# EAGLE library part USB-CONNECTOR (library 00_ir)
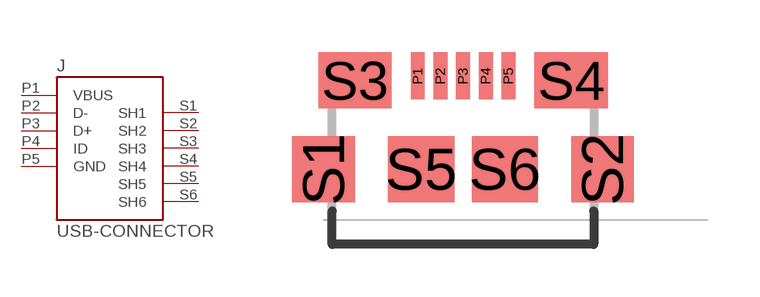
[diagram p5: symbol with the pads of USB-MICROB; footprint USB-MICROB]

Designator prefix J

## USB-CONNECTORMICROB  [USB-MICROB]
P1  VBUS  pwr
P2  D-
P3  D+
P4  ID
P5  GND  pas
S1  SH1  pas
S2  SH2  pas
S3  SH3  pas
S4  SH4  pas
S5  SH5  pas
S6  SH6  pas

## Footprint USB-MICROB (pad centres in mm)
ZX62-B-5PA(11) http://www.hirose.co.jp/catalogj_hp/j24200011.pdf
smd 0.4 x 1.35: P1 -1.3,2.675; P2 -0.65,2.675; P3 0,2.675; P4 0.65,2.675; P5 1.3,2.675
smd 1.8 x 1.9: S1 -4,0; S2 4,0
smd 2.1 x 1.6: S3 -3.1,2.55; S4 3.1,2.55
smd 1.9 x 1.9: S5 -1.2,0; S6 1.2,0